# EAGLE library part 74S134N (library EW_IC_74_Logic)
12-input pos. nand w/3 state out & enable. Category: Gates Manufacturer: Generic
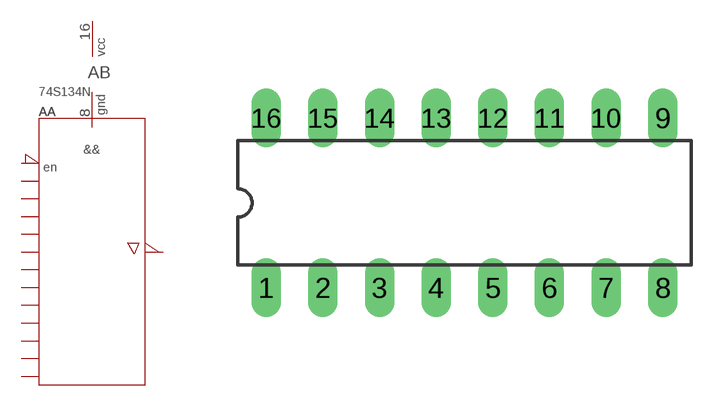
[diagram p257: symbol with the pads of DIL16; footprint DIL16]

Designator prefix A; gates A=74134_S_12-INPUT_NAND B=PWRN

## 74S134N  [DIL16]
1  A:A  pwr
2  A:B  pwr
3  A:C  pwr
4  A:D  pwr
5  A:E  pwr
6  A:F  pwr
7  A:G  pwr
8  B:GND  pwr
9  A:Y  pwr
10  A:H  pwr
11  A:I  pwr
12  A:J  pwr
13  A:K  pwr
14  A:L  pwr
15  A:EN  pwr
16  B:VCC  pwr

## Footprint DIL16 (pad centres in mm)
SOCKET Dual In Line
drill 0.813 long: 1 -8.89,-3.81; 2 -6.35,-3.81; 3 -3.81,-3.81; 4 -1.27,-3.81; 5 1.27,-3.81; 6 3.81,-3.81; 7 6.35,-3.81; 8 8.89,-3.81; 9 8.89,3.81; 10 6.35,3.81; 11 3.81,3.81; 12 1.27,3.81; 13 -1.27,3.81; 14 -3.81,3.81; 15 -6.35,3.81; 16 -8.89,3.81